# Altium footprint library Anaren.PcbLib: 2 footprints
Each footprint in its own frame and in the unit in brackets; x right, y up, seen from the top. Pads: shape width x height; smd on the part's side, far side on the other; paste and mask are expansions set on the pad; w line width, h text height; cw(c..) or ccw(c..) is an arc to the next point about the centre after c.
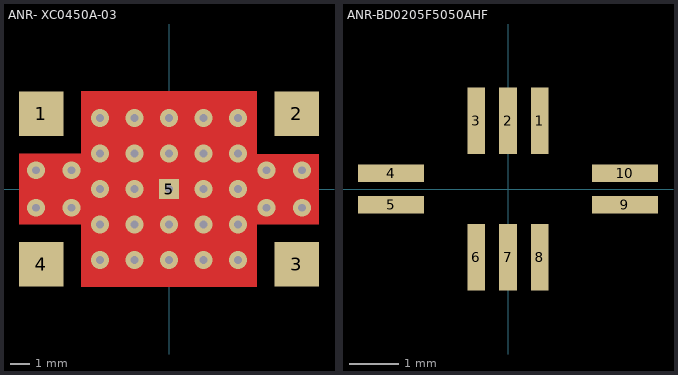
[diagram p0: the footprints below, top view; thin cyan lines are the x and y axes]

## ANR- XC0450A-03 [mm] "90 degree hybrid coupler"
pads (5):
  rect 2.25x2.25 smd: 1(-6.485,3.82) 2(6.485,3.82) 3(6.485,-3.82) 4(-6.485,-3.82)
  rect 1x1 smd: 5(0,0)
via 0,3.6 diameter 0.9 hole 0.4
via -3.5,-3.6 diameter 0.9 hole 0.4
via -3.5,0 diameter 0.9 hole 0.4
via -3.5,3.6 diameter 0.9 hole 0.4
via -3.5,1.8 diameter 0.9 hole 0.4
via 1.75,3.6 diameter 0.9 hole 0.4
via 3.5,3.6 diameter 0.9 hole 0.4
via -1.75,1.8 diameter 0.9 hole 0.4
via 0,1.8 diameter 0.9 hole 0.4
via 1.75,1.8 diameter 0.9 hole 0.4
via 3.5,1.8 diameter 0.9 hole 0.4
via -1.75,0 diameter 0.9 hole 0.4
via 0,0 diameter 0.9 hole 0.4
via 1.75,0 diameter 0.9 hole 0.4
via 3.5,0 diameter 0.9 hole 0.4
via -3.5,-1.8 diameter 0.9 hole 0.4
via -1.75,-1.8 diameter 0.9 hole 0.4
via 0,-1.8 diameter 0.9 hole 0.4
via 1.75,-1.8 diameter 0.9 hole 0.4
via 3.5,-1.8 diameter 0.9 hole 0.4
via -1.75,-3.6 diameter 0.9 hole 0.4
via 0,-3.6 diameter 0.9 hole 0.4
via 1.75,-3.6 diameter 0.9 hole 0.4
via 3.5,-3.6 diameter 0.9 hole 0.4
via -4.95,0.95 diameter 0.9 hole 0.4
via -4.95,-0.95 diameter 0.9 hole 0.4
via -6.75,-0.95 diameter 0.9 hole 0.4
via -6.75,0.95 diameter 0.9 hole 0.4
via 4.95,0.95 diameter 0.9 hole 0.4
via 6.75,-0.95 diameter 0.9 hole 0.4
via 4.95,-0.95 diameter 0.9 hole 0.4
via 6.75,0.95 diameter 0.9 hole 0.4
via -1.75,3.6 diameter 0.9 hole 0.4
Top Layer:
  region: -4.45,4.95 4.45,4.95 4.45,1.775 7.6,1.775 7.6,-1.8 4.45,-1.8 4.45,-4.95 -4.45,-4.95 -4.45,-1.8 -7.6,-1.8 -7.6,1.8 -4.45,1.8
3D body: height 0.25, standoff 0, extent -7.425,4.875 -7.425,4.875
3D body: height 0.25, standoff 0, extent -6.475,4.2 -6.475,4.2
3D body: height 0.25, standoff 0, extent -7.1,-4.45 7.1,4.45

## ANR-BD0205F5050AHF [mm] "Balun 50 Ohm to 50 Ohm"
height 0.84
pads (10):
  rect 0.36x1.35 smd: 1(0.65,1.395) 2(0,1.395) 3(-0.65,1.395) 6(-0.65,-1.395) 7(0,-1.395) 8(0.65,-1.395)
  rect 1.35x0.36 smd: 4(-2.39,0.325) 5(-2.39,-0.325) 9(2.39,-0.325) 10(2.39,0.325)
3D body: height 0.84, standoff 0, extent -2.05,-1.05 2.05,1.05